# Altium footprint library PCB - BUZZER - CUI CT-1205H-SMT-TR.PCBLIB: 1 footprints
Each footprint in its own frame and in the unit in brackets; x right, y up, seen from the top. Pads: shape width x height; smd on the part's side, far side on the other; paste and mask are expansions set on the pad; w line width, h text height; cw(c..) or ccw(c..) is an arc to the next point about the centre after c.
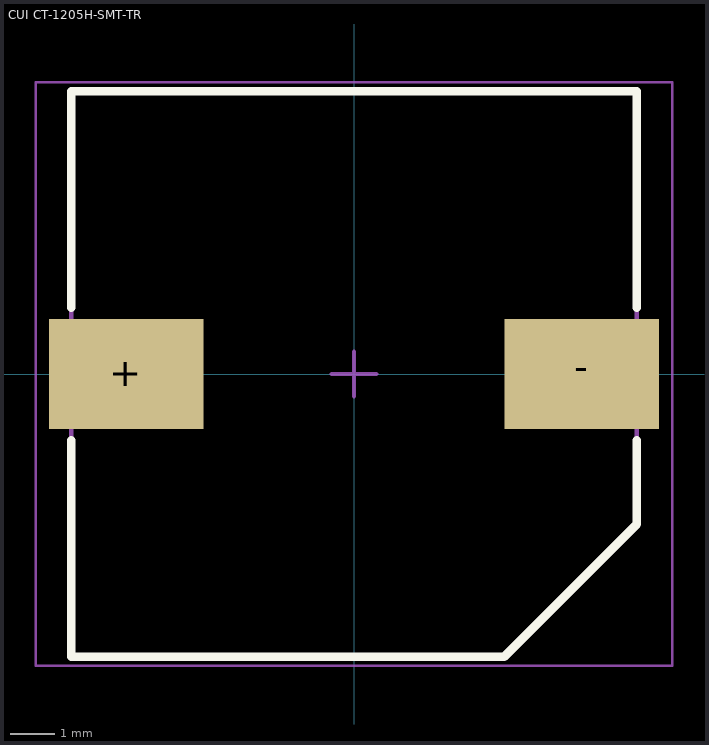
[diagram p0: the footprint, top view; thin cyan lines are the x and y axes]

## CUI CT-1205H-SMT-TR [mm] "Buzzer 12.8x12.8mm"
height 10
pads (2):
  rect 3.5x2.5 smd: +(-5.15,0) -(5.15,0)
Top Overlay:
  lines w0.2: -6.4,-1.5 -6.4,-6.4 3.4,-6.4 6.4,-3.4 6.4,-1.5 ; -6.4,1.5 -6.4,6.4 6.4,6.4 6.4,1.5
Mechanical 13:
  lines w0.1: -6.4,-6.4 -6.4,6.4 6.4,6.4 6.4,-3.4 3.4,-6.4 -6.4,-6.4
Mechanical 15:
  lines w0.05: -7.2,-6.6 -7.2,6.6 7.2,6.6 7.2,-6.6 -7.2,-6.6
  lines w0.1: -0.5,0 0.5,0 ; 0,-0.5 0,0.5
3D body "CUI - CT-1205H-SMT-TR.step": height 10, standoff 0, extent -6.9,-6.4 6.9,6.4